# Altium schematic symbol library CONN_USB.SchLib: 6 symbols
Pins are listed as number, name and electrical type; pins without a type are passive.

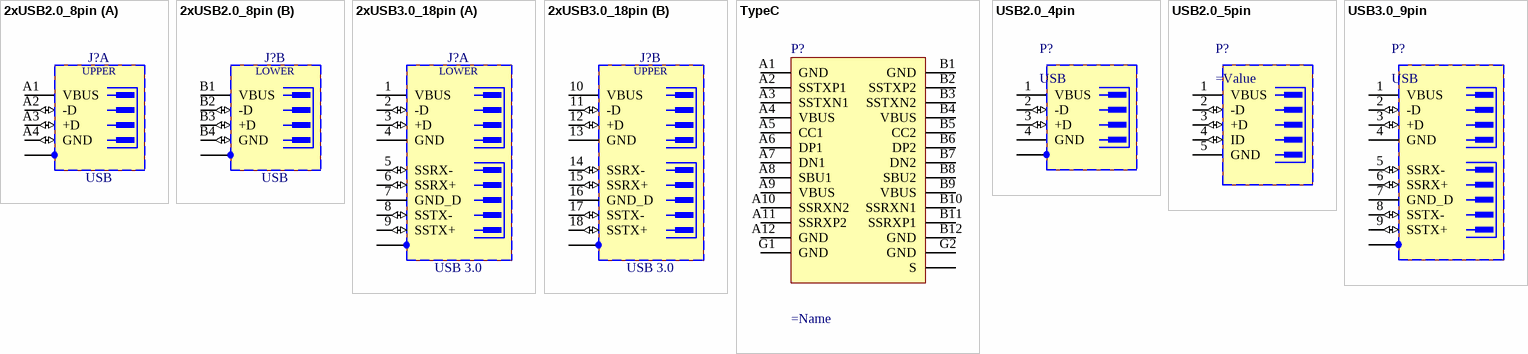
[diagram p0: symbols 2xUSB2.0_8pin to USB3.0_9pin]

## 2xUSB2.0_8pin
designator J?, comment USB
Dual 4 Pin + 1 Shield USB; Part Number: FCI_72309-8034BLF; Part Description: Dual Right Angle USB Type A Receptacle, Through Hole, 30u GXT Contact, 8 Pins, Shield With Bright Tin Plating, 1.57 mm PCB, White HSG; Manufacturer: FCI; Manufacturer Part Number: 72309-8034BLF; PressFit: No; Component Kind: Standard; Component Type: Standard; Footprint: FCI_72309-8034BLF; Pin Count: 9; Family: USB; Mounted: Yes; Socket: No; SMD: No; Status: None; ComponentHeight: 15.5mm; HelpURL: \\cern.ch\dfs\Applications\Altium\Datasheets\FCI_72309-8034BLF.pdf; Author: CERN DEM JLC; CreateDate: 23.03.2011; LatestRevisionDate: 23.03.2011; Table: FCI
footprint 2x2.0_a_thd_horizontal_female (FCI_72309-8034BLF)
part A pins: 1 SHIELD (power), A1 VBUS (power), A2 -D (io), A3 +D (io), A4 GND (io)
part B pins: 2 SHIELD (power), B1 VBUS (power), B2 -D (io), B3 +D (io), B4 GND (io)
part A text: UPPER
part B text: LOWER

## 2xUSB3.0_18pin
designator J?, comment USB 3.0
2x9 Pin + 1 Shield  Duals USB 3.0; Part Number: WURTH_692141030100; Part Description: USB 3.0 Type A Stacked Right Angle Receptacles; Manufacturer: WURTH ELEKTRONIK; Manufacturer Part Number: 692141030100; PressFit: No; Table: Miscellaneous; Component Kind: Standard; Component Type: Standard; Footprint: WURTH_692141030100; Pin Count: 19; Family: USB 3.0; Mounted: Yes; Socket: No; SMD: No; Status: None; ComponentHeight: 16.11mm; HelpURL: \\cern.ch\dfs\Applications\Altium\Datasheets\WURTH_692141030100.pdf; Author: CERN DEM JLC; CreateDate: 27.06.2013; LatestRevisionDate: 27.06.2013
footprint 2x3.0_a_thd_horizontal_female (WURTH_692141030100)
part A pins: 1 VBUS (power), 2 -D (io), 3 +D (io), 4 GND (power), 5 SSRX- (io), 6 SSRX+ (io), 7 GND_D (power), 8 SSTX- (io), 9 SSTX+ (io), 19 SHIELD (power)
part B pins: 10 VBUS (power), 11 -D (io), 12 +D (io), 13 GND (power), 14 SSRX- (io), 15 SSRX+ (io), 16 GND_D (power), 17 SSTX- (io), 18 SSTX+ (io), 20 SHIELD (power)
part A text: LOWER
part B text: UPPER

## TypeC
designator P?
USB Type C connector; Manufacturer_Name: Wurth Elektronik; Manufacturer_Part_Number: 632723100011; Datasheet Link: https://componentsearchengine.com/Datasheets/1/632723100011.pdf; Height: 3.11mm; Mouser Part Number: 710-632723100011; Mouser Price/Stock: https://www.mouser.co.uk/ProductDetail/Wurth-Elektronik/632723100011?qs=NK6InXoXhq4o62C9ULXLjQ%3D%3D
footprint U241045A1-NI-T
pins: 0 S, A1 GND, A2 SSTXP1, A3 SSTXN1, A4 VBUS, A5 CC1, A6 DP1, A7 DN1, A8 SBU1, A9 VBUS, A10 SSRXN2, A11 SSRXP2, A12 GND, B1 GND, B2 SSTXP2, B3 SSTXN2, B4 VBUS, B5 CC2, B6 DP2, B7 DN2, B8 SBU2, B9 VBUS, B10 SSRXN1, B11 SSRXP1, B12 GND, G1 GND, G2 GND

## USB2.0_4pin
designator P?, comment USB
4 Pin + 1 Shield USB 2.0
footprint 2.0_abmicro_smd_horizontal_female_reversed (HIROSE_ZX62RD-AB-5P8)
footprint 2.0_abmicro_thd_horizontal_female (AMPHENOL_MUSB-K152-30)
footprint 2.0_a_thd_horizontal_female (FCI_87520-0010BLF)
footprint 2.0_a_thd_horizontal_male (MOLEX_48037-0001)
footprint 2.0_bmini_smd_horizontal_female (TYCO_1734035-1)
footprint 2.0_bmini_smd_vertical_female
footprint 2.0_bmini_thd_horizontal_female (WURTH_651005136521)
footprint 2.0_bmini_thd_vertical_female (MOLEX_500075-1517)
footprint 2.0_b_thd_horizontal_female (TYCO_292304-1)
footprint 2.0_bmicro_smd_horizontal_female (MOLEX_1050171001)
pins: 1 VBUS (power), 2 -D (io), 3 +D (io), 4 GND (power), 5 SHIELD (power)

## USB2.0_5pin
designator P?
5 Pin + 1 Shield USB 2.0; Manufacturer: Molex; Value: 105017-1001; BOMString: =Manufacturer+' '+Value; Name: 105017-1001
footprint 2.0_abmicro_smd_horizontal_female_reversed (HIROSE_ZX62RD-AB-5P8)
footprint 2.0_abmicro_thd_horizontal_female (AMPHENOL_MUSB-K152-30)
footprint 2.0_bmini_smd_horizontal_female (TYCO_1734035-1)
footprint 2.0_bmini_thd_horizontal_female (WURTH_651005136521)
footprint 2.0_bmini_thd_vertical_female (MOLEX_500075-1517)
footprint 2.0_bmicro_smd_horizontal_female (MOLEX_1050171001)
footprint MOLEX_47346-0001 (CONN RCPT 5POS MICRO USB R/A)
pins: 1 VBUS (power), 2 -D (io), 3 +D (io), 4 ID (io), 5 GND (power)

## USB3.0_9pin
designator P?, comment USB
9 Pin + 1 Shield USB 3.0
footprint 3.0_a_smd_horizontal_male
footprint 3.0_a_thd_horizontal_female (TYCO_1932258-1)
footprint 3.0_b_thd_horizontal_female (SAMTEC_USB3-B-S-F-TH)
footprint 3.0_a_thd_horizontal_female_2 (MOLEX_483930003)
pins: 1 VBUS (power), 2 -D (io), 3 +D (io), 4 GND (power), 5 SSRX- (io), 6 SSRX+ (io), 7 GND_D (power), 8 SSTX- (io), 9 SSTX+ (io), 10 SHIELD (power)